# Altium integrated library Connectors.IntLib: 15 symbols
Pins are listed as number, name and electrical type; pins without a type are passive.

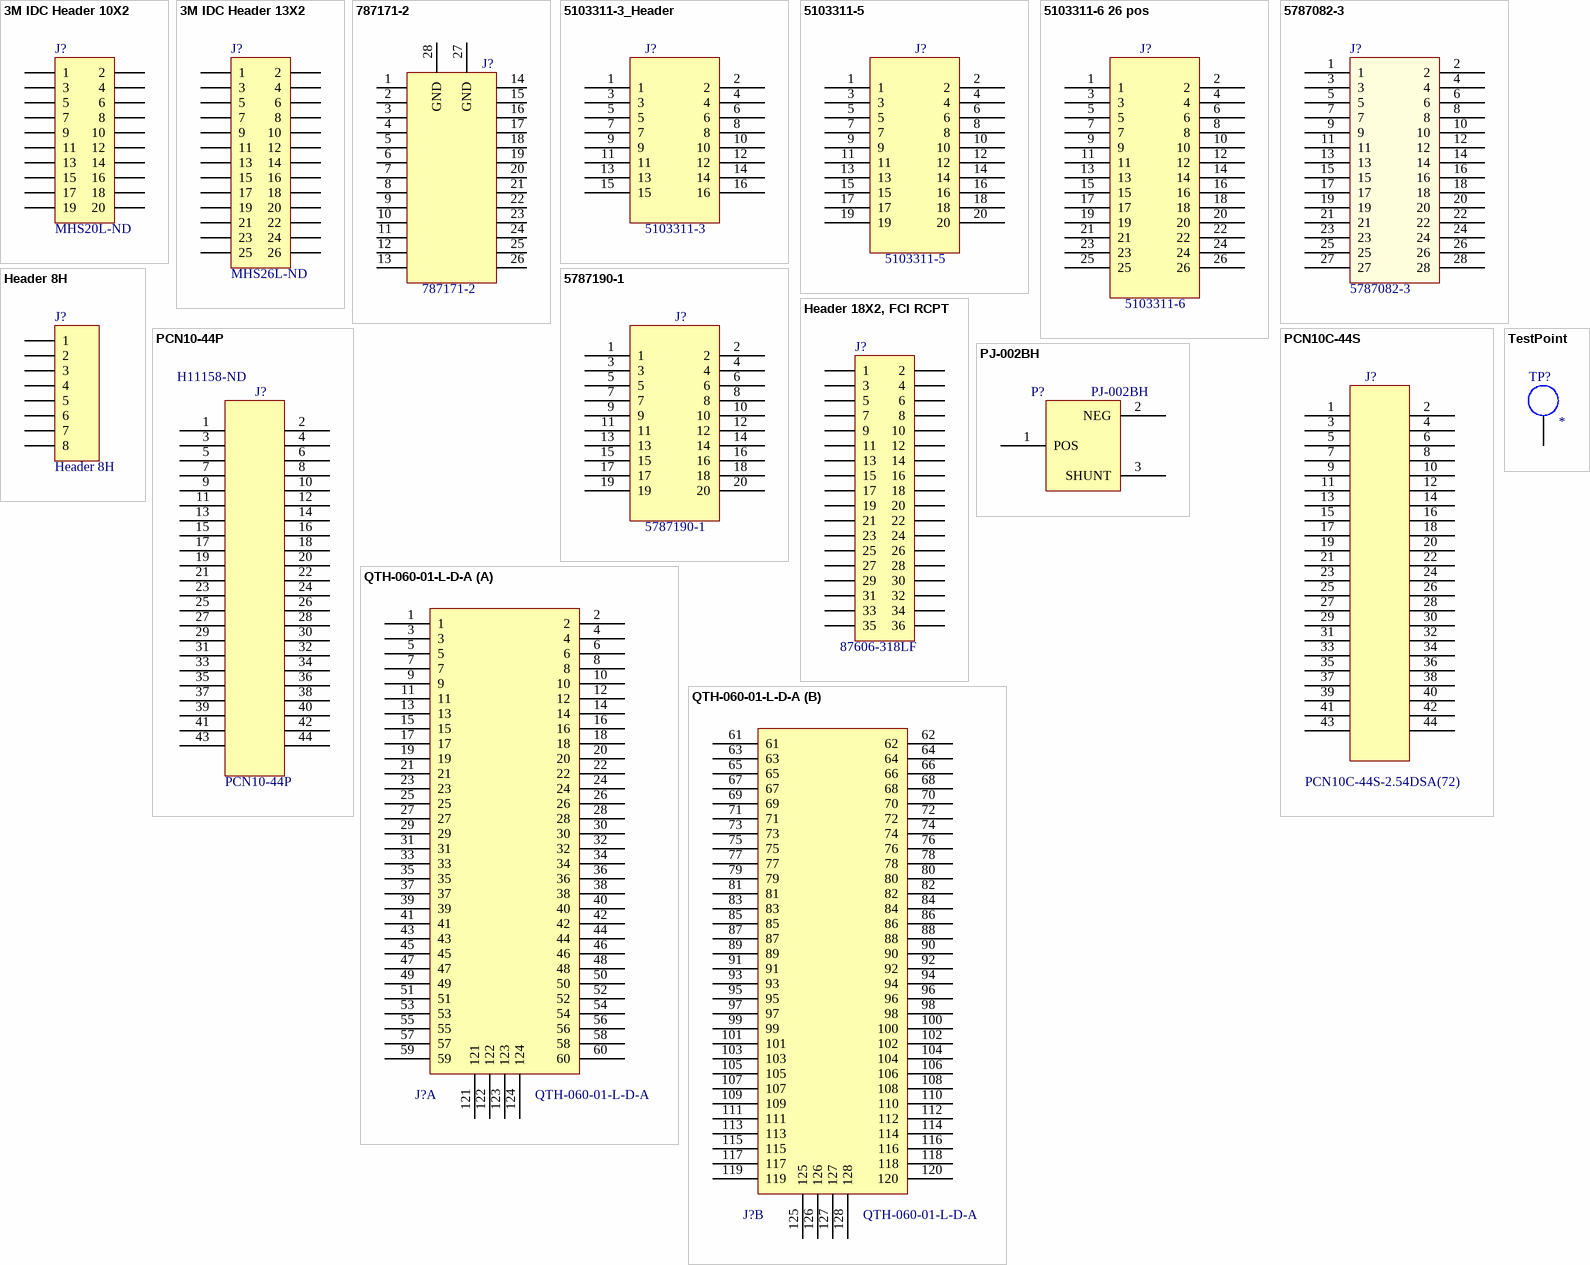
[diagram p0: symbols 3M IDC Header 10X2 to TestPoint]

## 3M IDC Header 10X2
designator J?  Supplier Part Number 1: MHS20L-ND  (hidden comment: 3M IDC Header 10X2)
PROTECT HEADER STRGT 20 CONTACT; Manufacturer Part Number: N3428-6002RB; Connector Type: Header, Shrouded; Number of Positions: 20; Number of Positions Loaded: All; Pitch: 0.100" (2.54mm); Supplier 1: Digi-Key; Manufacturer: 3M; RoHS: RoHS Compliant; Category: Connectors, Interconnects; Stock 1: 243; Pricing 1: 1=2.73, 10=2.616, 25=2.398, 50=2.289, 100=2.18, 250=1.90752, 500=1.853, 1000=1.5805, 2500=1.4715 (USD); Packaging: Bulk; Contact Type: Male Pin; Number of Rows: 2; Row Spacing: 0.100" (2.54mm); Contact Mating Length: 0.240" (6.10mm); Mounting Type: Through Hole; Termination: Solder; Fastening Type: -; Features: -; Contact Finish: Gold; Contact Finish Thickness: 30µin (0.76µm); Color: Black; ComponentLink1URL: http://multimedia.3m.com/mws/mediawebserver?66666UuZjcFSLXTt4Xfym8s6EVuQEcuZgVs6EVs6E666666--; ComponentLink1Description: http://multimedia.3m.com/mws/mediawebserver?66666UuZjcFSLXTt4Xfym8s6EVuQEcuZgVs6EVs6E666666--
footprint 3M_IDC_HDR2X10 (Connector; Header; 10x2 Position)
signal-integrity model Connector
pins: 1, 2, 3, 4, 5, 6, 7, 8, 9, 10, 11, 12, 13, 14, 15, 16, 17, 18, 19, 20

## 3M IDC Header 13X2
designator J?  Supplier Part Number 1: MHS26L-ND  (hidden comment: 3M IDC Header 13X2)
PROTECT HEADER STRGT 26 CONTACT; Manufacturer Part Number: N3429-6002RB; Connector Type: Header, Shrouded; Number of Positions: 26; Number of Positions Loaded: All; Pitch: 0.100" (2.54mm); Supplier 1: Digi-Key; Manufacturer: 3M; RoHS: RoHS Compliant; Category: Connectors, Interconnects; Stock 1: 3667; Pricing 1: 1=3.53, 10=3.384, 25=3.102, 50=2.961, 100=2.82, 250=2.46752, 500=2.397, 1000=2.0445, 2500=1.9035 (USD); Packaging: Bulk; Contact Type: Male Pin; Number of Rows: 2; Row Spacing: 0.100" (2.54mm); Contact Mating Length: 0.240" (6.10mm); Mounting Type: Through Hole; Termination: Solder; Fastening Type: -; Features: -; Contact Finish: Gold; Contact Finish Thickness: 30µin (0.76µm); Color: Black; ComponentLink1URL: http://multimedia.3m.com/mws/mediawebserver?66666UuZjcFSLXTt4Xfym8s6EVuQEcuZgVs6EVs6E666666--; ComponentLink1Description: http://multimedia.3m.com/mws/mediawebserver?66666UuZjcFSLXTt4Xfym8s6EVuQEcuZgVs6EVs6E666666--
footprint 3M_IDC_HDR2X13 (Connector; Header; 13x2 Position)
signal-integrity model Connector
pins: 1, 2, 3, 4, 5, 6, 7, 8, 9, 10, 11, 12, 13, 14, 15, 16, 17, 18, 19, 20, 21, 22, 23, 24, 25, 26

## 787171-2
designator J?
Receptacle Assembly, Shielded, Right Angle, Railed, AMPLIMITE; Manufacturer: TE Connectivity; Description: 26 50SR R/A RCPT ASSY,REDESIGN; Connector Style: D-Type; Connector Type: Receptacle, Female Sockets; Number of Positions: 26; Flange Feature: Housing/Shell (2-56); Latchblocks, Rails; Voltage Rating: 30V; Current Rating: 1A; Supplier 1: Digi-Key; Manufacturer Part Number: 787171-2; RoHS: RoHS non-compliant; Category: Connectors, Interconnects; Stock 1: 924; Pricing 1: 1=8.49, 10=8.118, 50=7.011, 100=6.8265, 250=6.08852, 500=5.7195, 1000=5.0553, 2500=4.797 (USD); Packaging: Tube; Number of Rows: 2; Shell Size, Connector Layout: 0.050 Pitch x 0.100 Row to Row; Contact Type: Signal; Mounting Type: Panel Mount; Through Hole, Right Angle; Termination: Solder; Features: Board Lock, Shielded; Shell Material, Finish: Steel, Nickel Plated; Contact Finish: Gold; Contact Finish Thickness: Flash; Ingress Protection: -; Operating Temperature: -55°C ~ 105°C; Housing Material: Thermoplastic; Color: Black; ComponentLink1URL: http://www.te.com/commerce/DocumentDelivery/DDEController?Action=srchrtrv&DocNm=787171&DocType=Customer+Drawing&DocLang=English; ComponentLink1Description: http://www.te.com/commerce/DocumentDelivery/DDEController?Action=srchrtrv&DocNm=787171&DocType=Customer+Drawing&DocLang=English; Supplier Part Number 1: A23733-ND
footprint 787171-2 (Connector; D Subminiature 050 Series; 26 Position; Right Angle)
signal-integrity model D Subminiature
pins: 1, 2, 3, 4, 5, 6, 7, 8, 9, 10, 11, 12, 13, 14, 15, 16, 17, 18, 19, 20, 21, 22, 23, 24, 25, 26, 27 GND, 28 GND

## 5103311-3_Header
designator J?, comment 5103311-3
TE Connectivity, 16 pos shrouded IDC Header
pins: 1, 2, 3, 4, 5, 6, 7, 8, 9, 10, 11, 12, 13, 14, 15, 16

## 5103311-5
designator J?
TE Connectivity, 20 pos shrouded plug, 2 row
pins: 1, 2, 3, 4, 5, 6, 7, 8, 9, 10, 11, 12, 13, 14, 15, 16, 17, 18, 19, 20

## 5103311-6 26 pos
designator J?, comment 5103311-6
TE Connectivity, 26 pos shrouded plug, 2 row
pins: 1, 2, 3, 4, 5, 6, 7, 8, 9, 10, 11, 12, 13, 14, 15, 16, 17, 18, 19, 20, 21, 22, 23, 24, 25, 26

## 5787082-3
designator J?
TE Connectivity, 28 pos recpt, right angle; Description: CONN RECEPT 28POS R/A .050" GOLD; Connector Style: D-Type; Connector Type: Receptacle, Female Sockets; Number of Positions: 28; Flange Feature: Housing/Shell (2-56); Latchblocks; Voltage Rating: 30V; Current Rating: 1A; Supplier 1: Digi-Key; Manufacturer: TE Connectivity; Manufacturer Part Number: 5787082-3; RoHS: RoHS Compliant; Category: Connectors, Interconnects; Stock 1: 552; Pricing 1: 1=7.78, 10=7.452, 50=6.48, 100=6.156, 250=5.508, 500=5.184, 1000=4.536, 2500=4.3092, 5000=4.212 (USD); Packaging: Tube; Number of Rows: 2; Shell Size, Connector Layout: 0.050 Pitch x 0.100 Row to Row; Contact Type: Signal; Mounting Type: Panel Mount; Through Hole, Right Angle; Termination: Solder; Features: Board Lock, Shielded; Shell Material, Finish: Steel, Nickel Plated; Contact Finish: Gold; Contact Finish Thickness: Flash; Ingress Protection: -; Operating Temperature: -55°C ~ 105°C; Housing Material: Thermoplastic; Color: Black; ComponentLink1URL: http://www.te.com/commerce/DocumentDelivery/DDEController?Action=srchrtrv&DocNm=5787082&DocType=Customer+Drawing&DocLang=English; ComponentLink1Description: http://www.te.com/commerce/DocumentDelivery/DDEController?Action=srchrtrv&DocNm=5787082&DocType=Customer+Drawing&DocLang=English; Supplier Part Number 1: A31811-ND
footprint 787082-3 (Connector; D Subminiature 050 Series; 28 Position; Right Angle)
pins: 1, 2, 3, 4, 5, 6, 7, 8, 9, 10, 11, 12, 13, 14, 15, 16, 17, 18, 19, 20, 21, 22, 23, 24, 25, 26, 27, 28

## 5787190-1
designator J?
Amplimite 20 position receptacle; Manufacturer: TE Connectivity; Description: CONN RCPT 20POS R/A .050 RDSN LF; Connector Style: D-Type; Connector Type: Receptacle, Female Sockets; Number of Positions: 20; Flange Feature: Housing/Shell (2-56); Latchblocks, Rails; Voltage Rating: 30V; Current Rating: 1A; Supplier 1: Digi-Key; Manufacturer Part Number: 5787190-1; RoHS: RoHS Compliant; Category: Connectors, Interconnects; Stock 1: 707; Pricing 1: 1=9.83, 10=9.404, 50=8.1216, 100=7.9079, 250=7.053, 500=6.62556, 1000=4.84982, 2500=4.60198 (USD); Packaging: Tube; Number of Rows: 2; Shell Size, Connector Layout: 0.050 Pitch x 0.100 Row to Row; Contact Type: Signal; Mounting Type: Panel Mount; Through Hole, Right Angle; Termination: Solder; Features: Shielded; Shell Material, Finish: Steel, Nickel Plated; Contact Finish: Gold; Contact Finish Thickness: Flash; Ingress Protection: -; Operating Temperature: -55°C ~ 105°C; Housing Material: Thermoplastic; Color: Black; ComponentLink1URL: http://www.te.com/commerce/DocumentDelivery/DDEController?Action=srchrtrv&DocNm=5787190&DocType=Customer+Drawing&DocLang=English; ComponentLink1Description: http://www.te.com/commerce/DocumentDelivery/DDEController?Action=srchrtrv&DocNm=5787190&DocType=Customer+Drawing&DocLang=English; Supplier Part Number 1: A115523-ND
footprint 5787190_Amp20pos (Connector; D Subminiature 050 Series; 20 Position; Right Angle)
pins: 1, 2, 3, 4, 5, 6, 7, 8, 9, 10, 11, 12, 13, 14, 15, 16, 17, 18, 19, 20

## Header 8H
designator J?
Header, 8-Pin, Right Angle; Manufacturer: Molex Inc; Manufacturer Part Number: 0901210768; Description: CONN HEADER 8POS .100" R/A GOLD; Connector Type: Header, Unshrouded, Breakaway; Number of Positions: 8; Number of Positions Loaded: All; Pitch: 0.100" (2.54mm); Supplier 1: Digi-Key; RoHS: RoHS Compliant; Category: Connectors, Interconnects; Stock 1: 1779; Pricing 1: 1=1.58, 10=1.437, 50=1.2906, 100=1.2319, 250=1.11456, 500=1.02656, 1000=0.8799, 2500=0.82124, 5000=0.78018 (USD); Packaging: Bulk; Contact Type: Male Pin; Number of Rows: 1; Row Spacing: -; Contact Mating Length: 0.266" (6.75mm); Mounting Type: Through Hole, Right Angle; Termination: Solder; Fastening Type: -; Features: -; Contact Finish: Gold; Contact Finish Thickness: 15µin (0.38µm); Color: Black; ComponentLink1URL: http://www.molex.com/pdm_docs/sd/901210768_sd.pdf; ComponentLink1Description: http://www.molex.com/pdm_docs/sd/901210768_sd.pdf; Supplier Part Number 1: WM8114-ND
footprint HDR1X8H (Connector; Header; 8 Position; Right Angle)
signal-integrity model Connector
pins: 1, 2, 3, 4, 5, 6, 7, 8

## Header 18X2, FCI RCPT
designator J?  Manufacturer Part Number: 87606-318LF  (hidden comment: Header 18X2, FCI RCPT)
CONN RCPT 36POS .100" DBL PCB; Connector Type: Receptacle; Number of Positions: 36; Number of Positions Loaded: All; Pitch: 0.100" (2.54mm); Supplier 1: Digi-Key; Manufacturer: FCI; RoHS: RoHS Compliant; Category: Connectors, Interconnects; Stock 1: 15; Pricing 1: 1=4.36, 10=4.184, 25=3.8356, 50=3.6614, 100=3.487, 250=3.05112, 500=2.96396, 1000=2.52808, 2500=2.35372 (USD); Packaging: Tube; Number of Rows: 2; Row Spacing: 0.100" (2.54mm); Height Stacking (Mating): -; Height Above Board: 0.335" (8.50mm); Mounting Type: Through Hole; Termination: Solder; Contact Finish: Gold; Contact Finish Thickness: 30µin (0.76µm); Features: -; Color: Blue; ComponentLink1URL: http://portal.fciconnect.com/Comergent//fci/drawing/87606.pdf; ComponentLink1Description: http://portal.fciconnect.com/Comergent//fci/drawing/87606.pdf; Supplier Part Number 1: 609-4507-ND
footprint FCI_RCPT_HDR2X18 (Connector; Header; 18x2 Position)
signal-integrity model Connector
pins: 1, 2, 3, 4, 5, 6, 7, 8, 9, 10, 11, 12, 13, 14, 15, 16, 17, 18, 19, 20, 21, 22, 23, 24, 25, 26, 27, 28, 29, 30, 31, 32, 33, 34, 35, 36

## PCN10-44P
designator J?  Supplier Part Number 1: H11158-ND
Hirose 44 position PCN10 dual row plug; Manufacturer: Hirose Electric Co Ltd; Manufacturer Part Number: PCN10-44P-2.54DS(72); Description: CONN DIN HEADER 44POS DUAL R/A; Connector Type: Header, Male Pins; Number of Positions: 44; Number of Positions Loaded: All; Pitch: 0.100" (2.54mm); Style: B; Current Rating: 2A; Material Flammability Rating: UL94 V-0; Material - Insulation: Polybutylene Terephthalate (PBT); Supplier 1: Digi-Key; RoHS: RoHS Compliant; Category: Connectors, Interconnects; Stock 1: 467; Pricing 1: 1=4.8, 10=4.608, 50=4.032, 100=3.84, 250=3.36, 500=3.264, 1000=2.784, 2500=2.592, 5000=2.496 (USD); Packaging: Tray; Number of Rows: 2; Level, Class: -; Mounting Type: Through Hole, Right Angle; Termination: Solder; Features: -; Contact Finish: Gold; Contact Finish Thickness: 8µin (0.20µm); Operating Temperature: -55°C ~ 85°C; ComponentLink1URL: http://www.hirose.co.jp/cataloge_hp/e58300011.pdf; ComponentLink1Description: http://www.hirose.co.jp/cataloge_hp/e58300011.pdf
footprint PCN10C_44P (Hirose 2 row, 44 pin right angle male connector (pins))
pins: 1, 2, 3, 4, 5, 6, 7, 8, 9, 10, 11, 12, 13, 14, 15, 16, 17, 18, 19, 20, 21, 22, 23, 24, 25, 26, 27, 28, 29, 30, 31, 32, 33, 34, 35, 36, 37, 38, 39, 40, 41, 42, 43, 44

## PCN10C-44S
designator J?  Manufacturer Part Number: PCN10C-44S-2.54DSA(72)  (hidden comment: PCN10C-44S)
Hirose 44 position PCN10 dual row receptacle; Manufacturer: Hirose Electric Co Ltd; Description: CONN DIN RECEPT 44POS DUAL STR; Connector Type: Receptacle, Female Sockets; Number of Positions: 44; Number of Positions Loaded: All; Pitch: 0.100" (2.54mm); Style: B; Current Rating: 2A; Material Flammability Rating: UL94 V-0; Material - Insulation: Polybutylene Terephthalate (PBT); Supplier 1: Digi-Key; RoHS: RoHS Compliant; Category: Connectors, Interconnects; Stock 1: 103; Pricing 1: 1=7.68, 10=7.36, 50=6.4, 100=6.08, 250=5.44, 500=5.12, 1000=4.48, 2500=4.256, 5000=4.16 (USD); Packaging: Tray; Number of Rows: 2; Level, Class: -; Mounting Type: Through Hole; Termination: Solder; Features: -; Contact Finish: Gold; Contact Finish Thickness: 8µin (0.20µm); Operating Temperature: -55°C ~ 85°C; ComponentLink1URL: http://www.hirose.co.jp/cataloge_hp/e58300011.pdf; ComponentLink1Description: http://www.hirose.co.jp/cataloge_hp/e58300011.pdf; Supplier Part Number 1: H11194-ND
footprint PCN10C_44S
pins: 1, 2, 3, 4, 5, 6, 7, 8, 9, 10, 11, 12, 13, 14, 15, 16, 17, 18, 19, 20, 21, 22, 23, 24, 25, 26, 27, 28, 29, 30, 31, 32, 33, 34, 35, 36, 37, 38, 39, 40, 41, 42, 43, 44

## PJ-002BH
designator P?
2.5 x 5.5mm power jack; Manufacturer: CUI; Manufacturer Part Number: PJ-002BH-SMT-TR; Description: CONN POWER JACK 2.5X5.5MM HI CUR; Gender: Male; Plug/Mating Plug Diameter: 2.5mm ID, 5.5mm OD; Number of Positions/Contacts: 2 Conductors, 3 Contacts; Internal Switch(s): Single Switch, Normally Closed; Shielding: Unshielded; Current Rating: 5A; Manufacturer PN: PJ-002BH; Supplier: Digikey; Supplier PN: CP-002BH-ND; Supplier link: http://www.digikey.com/product-detail/en/PJ-002BH/CP-002BH-ND/408447; Unit price: 1.01; Supplier 1: Digi-Key; RoHS: RoHS Compliant; Category: Connectors, Interconnects; Stock 1: 22310; Pricing 1: 1=1.89, 10=1.469, 100=1.121 (USD); Connector Type: Jack; Mounting Type: Surface Mount; Termination: Solder; Features: -; Color: Black; Contact Material: Copper Alloy; Contact Material - Plating: Nickel; Housing Color: Black; Housing Material: Thermoplastic; Operating Temperature: -25°C ~ 85°C; ComponentLink1URL: http://www.cui.com/product/resource/digikeypdf/pj-002bh-smt.pdf; ComponentLink1Description: http://www.cui.com/product/resource/digikeypdf/pj-002bh-smt.pdf; Supplier Part Number 1: CP-002BHPJCT-ND
footprint PWRRCPT, PJ-002BH, SMT (Power receptacle, SMT)
pins: 1 POS, 2 NEG, 3 SHUNT

## QTH-060-01-L-D-A
designator J?
Samtec QTH-060-01-L-D-A Connector
footprint QTH-060-01-X-D-A (0.50mm pitch, 120 pin, high speed terminal strip)
part A pins: 1, 2, 3, 4, 5, 6, 7, 8, 9, 10, 11, 12, 13, 14, 15, 16, 17, 18, 19, 20, 21, 22, 23, 24, 25, 26, 27, 28, 29, 30, 31, 32, 33, 34, 35, 36, 37, 38, 39, 40, 41, 42, 43, 44, 45, 46, 47, 48, 49, 50, 51, 52, 53, 54, 55, 56, 57, 58, 59, 60, 121, 122, 123, 124
part B pins: 61, 62, 63, 64, 65, 66, 67, 68, 69, 70, 71, 72, 73, 74, 75, 76, 77, 78, 79, 80, 81, 82, 83, 84, 85, 86, 87, 88, 89, 90, 91, 92, 93, 94, 95, 96, 97, 98, 99, 100, 101, 102, 103, 104, 105, 106, 107, 108, 109, 110, 111, 112, 113, 114, 115, 116, 117, 118, 119, 120, 125, 126, 127, 128

## TestPoint
designator TP?
Single Pad Test Point
footprint PIN1 (Generic Antenna; 1 Lead)
pins: 1 TP